# Altium schematic symbol library SHT1X.SchLib: 1 symbol
Pins are listed as number, name and electrical type; pins without a type are passive.

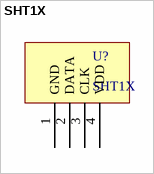
[diagram p0: symbol SHT1X]

## SHT1X
designator U?
footprint SHT1X (SOIC, 8-Leads, Body 7.55x3.45mm, Pitch 1.27mm, IPC Medium Density)
pins: 1 GND, 2 DATA, 3 CLK, 4 VDD